# Altium schematic symbol library SMA_Connector.SchLib: 1 symbol
Pins are listed as number, name and electrical type; pins without a type are passive.

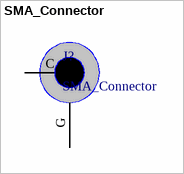
[diagram p0: symbol SMA_Connector]

## SMA_Connector
designator J?
pins: C 1, G 2